# Altium schematic symbol library 100nF-C0805C104K5RACTU.SchLib: 1 symbol
Pins are listed as number, name and electrical type; pins without a type are passive.

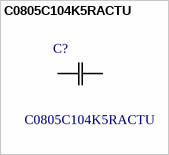
[diagram p0: symbol C0805C104K5RACTU]

## C0805C104K5RACTU
designator C?
Capacitor; Ceramic; Cap; .100UF ; Tol+-10%; SMD; Vol-Rtg 50V; X7R, Tape/Reel; MF: Kemet; Package: 0805 Kemet; Availability: Good; MP: C0805C104K5RACTU; Price: 0.86 USD; Value: *
footprint CAPC2013X110N
pins: 1 C1, 2 C2